# EAGLE library part ISL83491 (library intersil)
1/1 Transceiver Full RS422, RS485
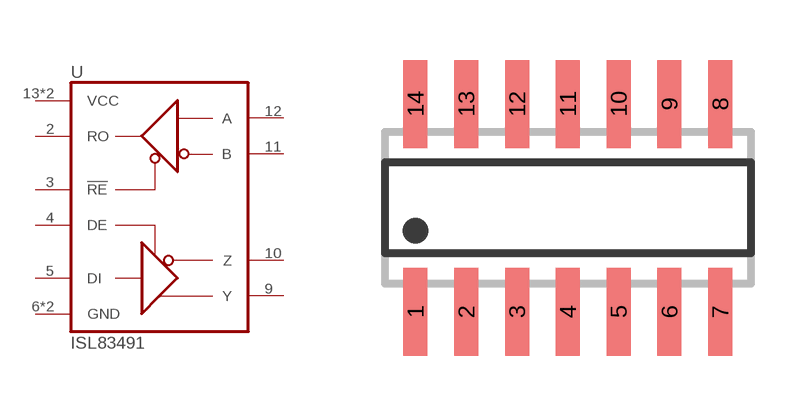
[diagram p9: symbol with the pads of SO14; footprint SO14]

Designator prefix U

## ISL83491  [SO14]
2  RO  out
3  !RE!  in
4  DE  in
5  DI  in
6  GND  pwr
7  GND  pwr
9  Y
10  Z
11  B
12  A
13  VCC  pwr
14  VCC  pwr

## Footprint SO14 (pad centres in mm)
SMALL OUTLINE INTEGRATED CIRCUIT body 3.9 mm/JEDEC MS-012AC
smd 0.6 x 2.2: 1 -3.81,-2.6; 2 -2.54,-2.6; 3 -1.27,-2.6; 4 0,-2.6; 5 1.27,-2.6; 6 2.54,-2.6; 7 3.81,-2.6; 8 3.81,2.6; 9 2.54,2.6; 10 1.27,2.6; 11 0,2.6; 12 -1.27,2.6; 13 -2.54,2.6; 14 -3.81,2.6